# Altium schematic symbol library Kosmodron.SchLib: 1 symbol
Pins are listed as number, name and electrical type; pins without a type are passive.

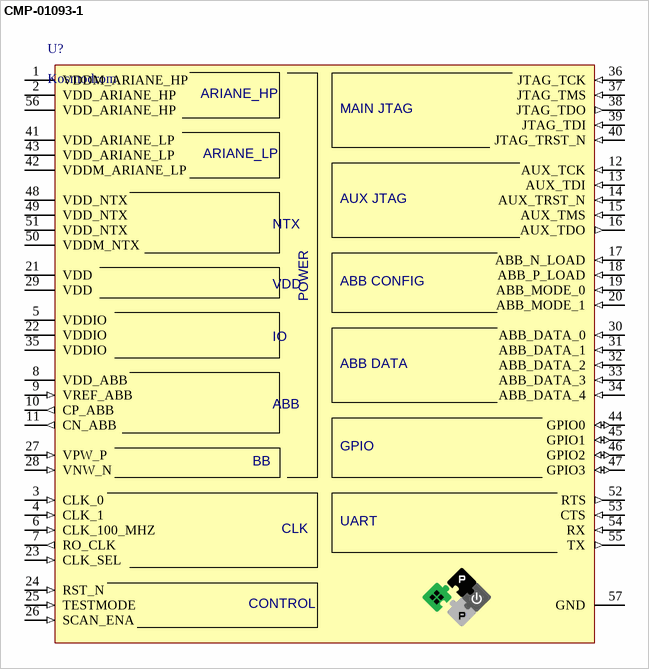
[diagram p0: symbol CMP-01093-1]

## CMP-01093-1
designator U?, comment Kosmodrom
footprint LPH068-0590-14ABEW55L (QFN-56 Testsocket E-tec CSP QFN56_0.5)
footprint QFN56_M (QFN, 56-Leads, Body 8x8mm, Pitch 0.5mm, Thermal Pad 6.5x6.5mm, IPC Low Density)
footprint QFN56_L (QFN, 56-Leads, Body 8x8mm, Pitch 0.5mm, Thermal Pad 6.5x6.5mm, IPC High Density)
footprint QFN56_N (QFN, 56-Leads, Body 8x8mm, Pitch 0.5mm, Thermal Pad 6.5x6.5mm, IPC Medium Density)
pins: 1 VDDM_ARIANE_HP (power), 2 VDD_ARIANE_HP (power), 3 CLK_0 (in), 4 CLK_1 (in), 5 VDDIO (power), 6 CLK_100_MHZ (in), 7 RO_CLK (out), 8 VDD_ABB (power), 9 VREF_ABB (in), 10 CP_ABB (out), 11 CN_ABB (out), 12 AUX_TCK (in), 13 AUX_TDI (in), 14 AUX_TRST_N (in), 15 AUX_TMS (in), 16 AUX_TDO (out), 17 ABB_N_LOAD (in), 18 ABB_P_LOAD (in), 19 ABB_MODE_0 (in), 20 ABB_MODE_1 (in), 21 VDD (power), 22 VDDIO (power), 23 CLK_SEL (in), 24 RST_N (in), 25 TESTMODE (in), 26 SCAN_ENA (in), 27 VPW_P (in), 28 VNW_N (in), 29 VDD (power), 30 ABB_DATA_0 (in), 31 ABB_DATA_1 (in), 32 ABB_DATA_2 (in), 33 ABB_DATA_3 (in), 34 ABB_DATA_4 (in), 35 VDDIO (power), 36 JTAG_TCK (in), 37 JTAG_TMS (in), 38 JTAG_TDO (out), 39 JTAG_TDI (in), 40 JTAG_TRST_N (in), 41 VDD_ARIANE_LP (power), 42 VDDM_ARIANE_LP (power), 43 VDD_ARIANE_LP (power), 44 GPIO0 (io), 45 GPIO1 (io), 46 GPIO2 (io), 47 GPIO3 (io), 48 VDD_NTX (power), 49 VDD_NTX (power), 50 VDDM_NTX (power), 51 VDD_NTX (power), 52 RTS (out), 53 CTS (in), 54 RX (in), 55 TX (out), 56 VDD_ARIANE_HP (power), 57 GND (power)
text: ARIANE_HP; MAIN JTAG; ARIANE_LP; AUX JTAG; NTX; POWER; ABB CONFIG; IO; ABB DATA; ABB; GPIO; BB; UART; CLK; CONTROL